# EAGLE library part RNX8 (library EW_Resistors)
RESISTOR NETWORK
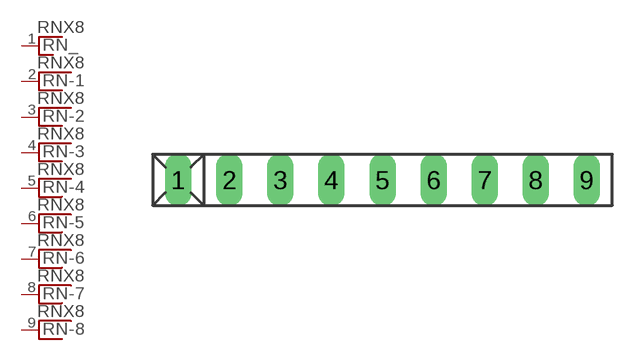
[diagram p54: symbol with the pads of RN-9; footprint RN-9]

Designator prefix RN; gates _=RN_1-5 -1=RNX-5 -2=RNX-5 -3=RNX-5 -4=RNX-5 -5=RNX-5 -6=RNX-5 -7=RNX-5 -8=RNX-5

## RNX8 (OC_FARNELL: unknown; OC_NEWARK: unknown)  [RN-9]
1  _:1  pas
2  -1:1  pas
3  -2:1  pas
4  -3:1  pas
5  -4:1  pas
6  -5:1  pas
7  -6:1  pas
8  -7:1  pas
9  -8:1  pas

## Footprint RN-9 (pad centres in mm)
RESISTOR NETWORK
drill 0.813 long: 1 -10.16,0; 2 -7.62,0; 3 -5.08,0; 4 -2.54,0; 5 0,0; 6 2.54,0; 7 5.08,0; 8 7.62,0; 9 10.16,0